# Altium footprint library MOLEX_39-28-xxxx.PcbLib: 1 footprints
Each footprint in its own frame and in the unit in brackets; x right, y up, seen from the top. Pads: shape width x height; smd on the part's side, far side on the other; paste and mask are expansions set on the pad; w line width, h text height; cw(c..) or ccw(c..) is an arc to the next point about the centre after c.
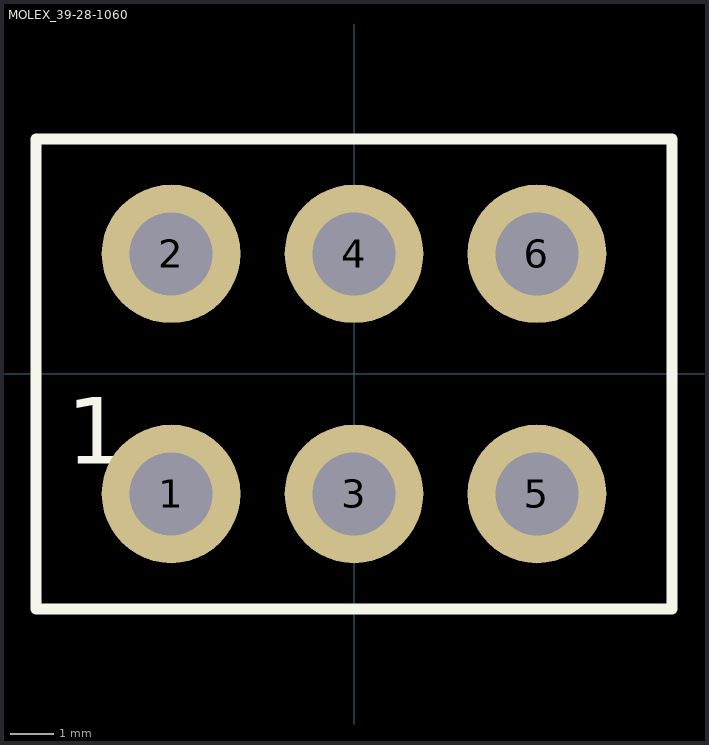
[diagram p0: the footprint, top view; thin cyan lines are the x and y axes]

## MOLEX_39-28-1060 [mm]
pads (6):
  round 3.175 hole 1.905: 1(-4.191,-2.75) 2(-4.191,2.75) 3(0,-2.75) 4(0,2.75) 5(4.191,-2.75) 6(4.191,2.75)
Top Overlay:
  lines w0.254: -7.288,-5.384 7.288,-5.384 7.288,5.38 -7.288,5.38 -7.288,-5.384
  text "1" at -6.579,-2.057 h1.52
3D body: height 12.8, standoff -3.5, extent -7.3,-5.507 7.3,5.493